# Altium integrated library CapacitorsPoll.IntLib: 24 symbols
Pins are listed as number, name and electrical type; pins without a type are passive.

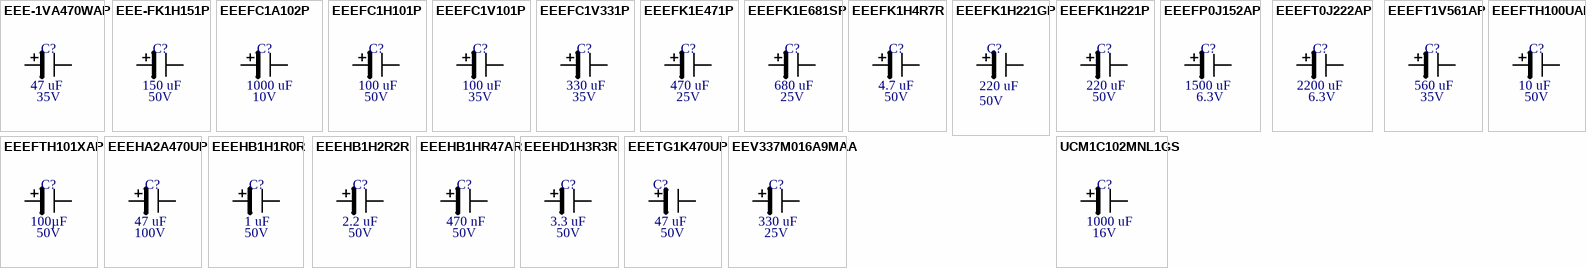
[diagram p0: symbols EEE-1VA470WAP to UCM1C102MNL1GS]

## EEE-1VA470WAP
designator C?  value 47 uF  Voltage: 35V  (hidden comment: EEE-1VA470WAP)
47 uF 20% 35Vcc 6.3 x 5.4; Manufacturer_Part_Number: EEEFTH101XAP; Vendor: Panasonic; Built_By: EMA_UL_Team; SourceLibrary: Panasonic_2012-04-02a; Type: DEV; RefDes: RefDes
footprint CAP_6.3 x 5.4_PAN-M
pins: 1, 2

## EEE-FK1H151P
designator C?  value 150 uF  Voltage: 50V  (hidden comment: EEE-FK1H151P)
150 uF 20 % 50Vcc G; Manufacturer_Part_Number: EEEFTH101XAP; Vendor: Panasonic; Built_By: EMA_UL_Team; SourceLibrary: Panasonic_2012-04-02a; Type: DEV; RefDes: RefDes
footprint CAP_EEE-FK1H151P_PAN-M
pins: 1, 2

## EEEFC1A102P
designator C?  value 1000 uF  Voltage: 10V  (hidden comment: EEEFC1A102P)
1000 uF 20% 10Vcc; Manufacturer_Part_Number: EEEFTH101XAP; Vendor: Panasonic; Built_By: EMA_UL_Team; SourceLibrary: Panasonic_2012-04-02a; Type: DEV; RefDes: RefDes
footprint CAP_10 X 10.2_PAN-M
pins: 1, 2

## EEEFC1H101P
designator C?  value 100 uF  Voltage: 50V  (hidden comment: EEEFC1H101P)
100 uF 20% 50Vcc; Manufacturer_Part_Number: EEEFTH101XAP; Vendor: Panasonic; Built_By: EMA_UL_Team; SourceLibrary: Panasonic_2012-04-02a; Type: DEV; RefDes: RefDes
footprint CAP_10 X 10.2_PAN-M
pins: 1, 2

## EEEFC1V101P
designator C?  value 100 uF  Voltage: 35V  (hidden comment: EEEFC1V101P)
100 uF 20% 35 Vcc; Manufacturer_Part_Number: EEEFTH101XAP; Vendor: Panasonic; Built_By: EMA_UL_Team; SourceLibrary: Panasonic_2012-04-02a; Type: DEV; RefDes: RefDes
footprint CAP_10 X 10.2_PAN-M
pins: 1, 2

## EEEFC1V331P
designator C?  value 330 uF  Voltage: 35V  (hidden comment: EEEFC1V331P)
330 uF 20% 35Vcc; Manufacturer_Part_Number: EEEFTH101XAP; Vendor: Panasonic; Built_By: EMA_UL_Team; SourceLibrary: Panasonic_2012-04-02a; Type: DEV; RefDes: RefDes
footprint CAP_10 X 10.2_PAN-M
pins: 1, 2

## EEEFK1E471P
designator C?  value 470 uF  Voltage: 25V  (hidden comment: EEEFK1E471P)
470 uF 20% 25Vcc HB; Manufacturer_Part_Number: EEEFTH101XAP; Vendor: Panasonic; Built_By: EMA_UL_Team; SourceLibrary: Panasonic_2012-04-02a; Type: DEV; RefDes: RefDes
footprint CAP_10 X 10.2_PAN-M
pins: 1, 2

## EEEFK1E681SP
designator C?  value 680 uF  Voltage: 25V  (hidden comment: EEEFK1E681SP)
680 uF 20% 25Vcc; Manufacturer_Part_Number: EEEFTH101XAP; Vendor: Panasonic; Built_By: EMA_UL_Team; SourceLibrary: Panasonic_2012-04-02a; Type: DEV; RefDes: RefDes
footprint CAP_10 X 10.2_PAN-M
pins: 1, 2

## EEEFK1H4R7R
designator C?  value 4.7 uF  Voltage: 50V  (hidden comment: EEEFK1H4R7R)
4.7 uF 20% 50Vcc HB; Manufacturer_Part_Number: EEEFTH101XAP; Vendor: Panasonic; Built_By: EMA_UL_Team; SourceLibrary: Panasonic_2012-04-02a; Type: DEV; RefDes: RefDes
footprint CAP_EEFK_D8_PAN-M
pins: 1, 2

## EEEFK1H221GP
designator C?, comment value 220 uF  Voltage: 50V  (hidden comment: EEEHD1H3R3R)
220 uF 20% 50Vcc; Manufacturer_Part_Number: EEEFTH101XAP; Vendor: Panasonic; Built_By: EMA_UL_Team; SourceLibrary: Panasonic_2012-04-02a; Type: DEV; RefDes: RefDes
footprint CAP_10 X 10.2_PAN-M
pins: 1, 2

## EEEFK1H221P
designator C?  value 220 uF  Voltage: 50V  (hidden comment: EEEFK1H221P)
220 uF 20% 50Vcc HB; Manufacturer_Part_Number: EEEFTH101XAP; Vendor: Panasonic; Built_By: EMA_UL_Team; SourceLibrary: Panasonic_2012-04-02a; Type: DEV; RefDes: RefDes
footprint CAP_10 X 10.2_PAN-M
pins: 1, 2

## EEEFP0J152AP
designator C?  value 1500 uF  Voltage: 6.3V  (hidden comment: EEEFP0J152AP)
1500 uF 20% 6.3Vcc; Manufacturer_Part_Number: EEEFTH101XAP; Vendor: Panasonic; Built_By: EMA_UL_Team; SourceLibrary: Panasonic_2012-04-02a; Type: DEV; RefDes: RefDes
footprint CAP_10 X 10.2_PAN-M
pins: 1, 2

## EEEFT0J222AP
designator C?  value 2200 uF  Voltage: 6.3V  (hidden comment: EEEFT0J222AP)
2200 uF 20% 6.3Vcc; Manufacturer_Part_Number: EEEFTH101XAP; Vendor: Panasonic; Built_By: EMA_UL_Team; SourceLibrary: Panasonic_2012-04-02a; Type: DEV; RefDes: RefDes
footprint CAP_10 X 10.2_PAN-M
pins: 1, 2

## EEEFT1V561AP
designator C?  value 560 uF  Voltage: 35V  (hidden comment: EEEFT1V561AP)
560 uF 20% 35Vcc; Manufacturer_Part_Number: EEEFTH101XAP; Vendor: Panasonic; Built_By: EMA_UL_Team; SourceLibrary: Panasonic_2012-04-02a; Type: DEV; RefDes: RefDes
footprint CAP_10 X 10.2_PAN-M
pins: 1, 2

## EEEFTH100UAR
designator C?, comment value 10 uF  Voltage: 50V  (hidden comment: EEEHB1H2R2R)
10 uF 20% 50Vcc HB; Manufacturer_Part_Number: EEEFTH101XAP; Vendor: Panasonic; Built_By: EMA_UL_Team; SourceLibrary: Panasonic_2012-04-02a; Type: DEV; RefDes: RefDes
footprint CAP_EEFK_D8_PAN-M
pins: 1, 2

## EEEFTH101XAP
designator C?  value 100µF  Voltage: 50V  (hidden comment: EEEFTH101XAP)
No Description Available; Vendor: Panasonic; Built_By: EMA_UL_Team; SourceLibrary: Panasonic_2012-04-02a; Type: DEV; Manufacturer_Part_Number: EEEFTH101XAP; RefDes: RefDes
footprint CAP_10 X 10.2_PAN-M
pins: 1, 2

## EEEHA2A470UP
designator C?  value 47 uF  Voltage: 100V  (hidden comment: EEEHA2A470UP)
47 uF 20% 100Vcc; Manufacturer_Part_Number: EEEFTH101XAP; Vendor: Panasonic; Built_By: EMA_UL_Team; SourceLibrary: Panasonic_2012-04-02a; Type: DEV; RefDes: RefDes
footprint CAP_10 X 10.2_PAN-M
pins: 1, 2

## EEEHB1H1R0R
designator C?, comment value 1 uF  Voltage: 50V  (hidden comment: EEEHB1H2R2R)
1 uF 20% 50Vcc HB; Manufacturer_Part_Number: EEEFTH101XAP; Vendor: Panasonic; Built_By: EMA_UL_Team; SourceLibrary: Panasonic_2012-04-02a; Type: DEV; RefDes: RefDes
footprint CAP_EEFK_D8_PAN-M
pins: 1, 2

## EEEHB1H2R2R
designator C?  value 2.2 uF  Voltage: 50V  (hidden comment: EEEHB1H2R2R)
2.2 uF 20% 50Vcc HB; Manufacturer_Part_Number: EEEFTH101XAP; Vendor: Panasonic; Built_By: EMA_UL_Team; SourceLibrary: Panasonic_2012-04-02a; Type: DEV; RefDes: RefDes
footprint CAP_EEFK_D8_PAN-M
pins: 1, 2

## EEEHB1HR47AR
designator C?, comment value 470 nF  Voltage: 50V  (hidden comment: EEEHD1H3R3R)
470 nF 20% 50Vcc HB; Manufacturer_Part_Number: EEEFTH101XAP; Vendor: Panasonic; Built_By: EMA_UL_Team; SourceLibrary: Panasonic_2012-04-02a; Type: DEV; RefDes: RefDes
footprint CAP_EEFK_D8_PAN-M
pins: 1, 2

## EEEHD1H3R3R
designator C?  value 3.3 uF  Voltage: 50V  (hidden comment: EEEHD1H3R3R)
3.3 uF 20% 50Vcc HB; Manufacturer_Part_Number: EEEFTH101XAP; Vendor: Panasonic; Built_By: EMA_UL_Team; SourceLibrary: Panasonic_2012-04-02a; Type: DEV; RefDes: RefDes
footprint CAP_EEFK_D8_PAN-M
pins: 1, 2

## EEETG1K470UP
designator C?  value 47 uF  Voltage: 50V  (hidden comment: EEETG1K470UP)
47 uF 20% 50Vcc HB; Manufacturer_Part_Number: EEEFTH101XAP; Vendor: Panasonic; Built_By: EMA_UL_Team; SourceLibrary: Panasonic_2012-04-02a; Type: DEV; RefDes: RefDes
footprint CAP_10 X 10.2_PAN-M
pins: 1, 2

## EEV337M016A9MAA
designator C?, comment value 330 uF  Voltage: 25V  (hidden comment: UCM1C102MNL1GS)
330 uF 20 % 25Vcc 8x10.5; Manufacturer_Part_Number: EEEFTH101XAP; Vendor: Panasonic; Built_By: EMA_UL_Team; SourceLibrary: Panasonic_2012-04-02a; Type: DEV; RefDes: RefDes
footprint CAP_EEE-FK1H151P_PAN-M
pins: 1, 2

## UCM1C102MNL1GS
designator C?  value 1000 uF  Voltage: 16V  (hidden comment: UCM1C102MNL1GS)
1000 uF 20 % 16Vcc 10x10.5; Manufacturer_Part_Number: EEEFTH101XAP; Vendor: Panasonic; Built_By: EMA_UL_Team; SourceLibrary: Panasonic_2012-04-02a; Type: DEV; RefDes: RefDes
footprint CAP_EEE-FK1H151P_PAN-M
pins: 1, 2